# Altium footprint library CONMHF4SMDGT.PcbLib: 1 footprints
Each footprint in its own frame and in the unit in brackets; x right, y up, seen from the top. Pads: shape width x height; smd on the part's side, far side on the other; paste and mask are expansions set on the pad; w line width, h text height; cw(c..) or ccw(c..) is an arc to the next point about the centre after c.
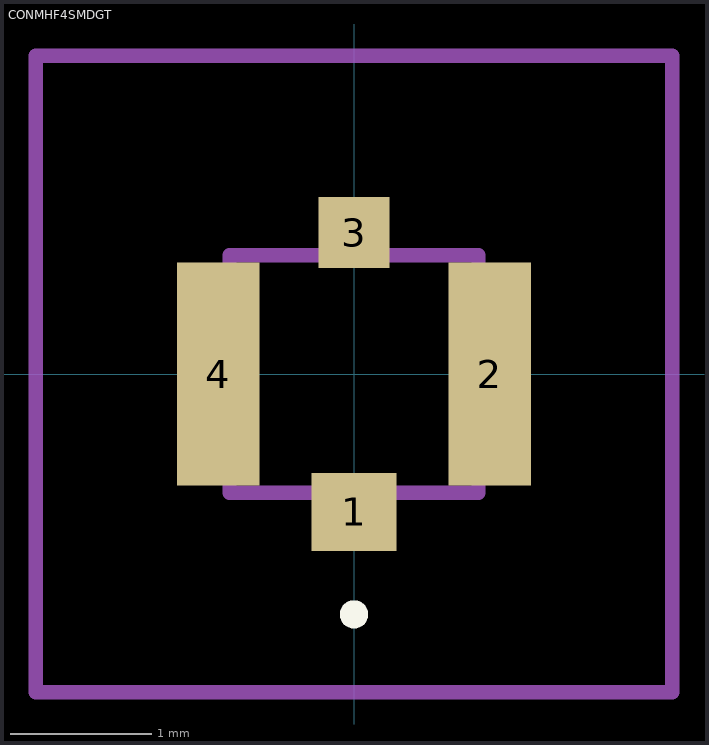
[diagram p0: the footprint, top view; thin cyan lines are the x and y axes]

## CONMHF4SMDGT [mm]
pads (4):
  rect 0.6x0.55 smd: 1(0,-0.975)
  rect 0.58x1.58 smd: 2(0.96,0) 4(-0.96,0)
  rect 0.5x0.5 smd: 3(0,1)
Top Overlay:
  lines w0.1: 0,-1.75 cw(c0,-1.7) 0,-1.65 ; 0,-1.75 0,-1.75 ; 0,-1.75 ccw(c0,-1.7) 0,-1.65 ; 0,-1.65 0,-1.65
Mechanical 15:
  lines w0.1: -0.88,-0.84 0.88,-0.84 0.88,0.84 -0.88,0.84 -0.88,-0.84
Mechanical 20:
  lines w0.1: -2.25,-2.25 2.25,-2.25 2.25,2.25 -2.25,2.25 -2.25,-2.25